# Altium footprint library AMP Footprints.PcbLib: 903 footprints (part 11 of 58)
Each footprint in its own frame and in the unit in brackets; x right, y up, seen from the top. Pads: shape width x height; smd on the part's side, far side on the other; paste and mask are expansions set on the pad; w line width, h text height; cw(c..) or ccw(c..) is an arc to the next point about the centre after c.
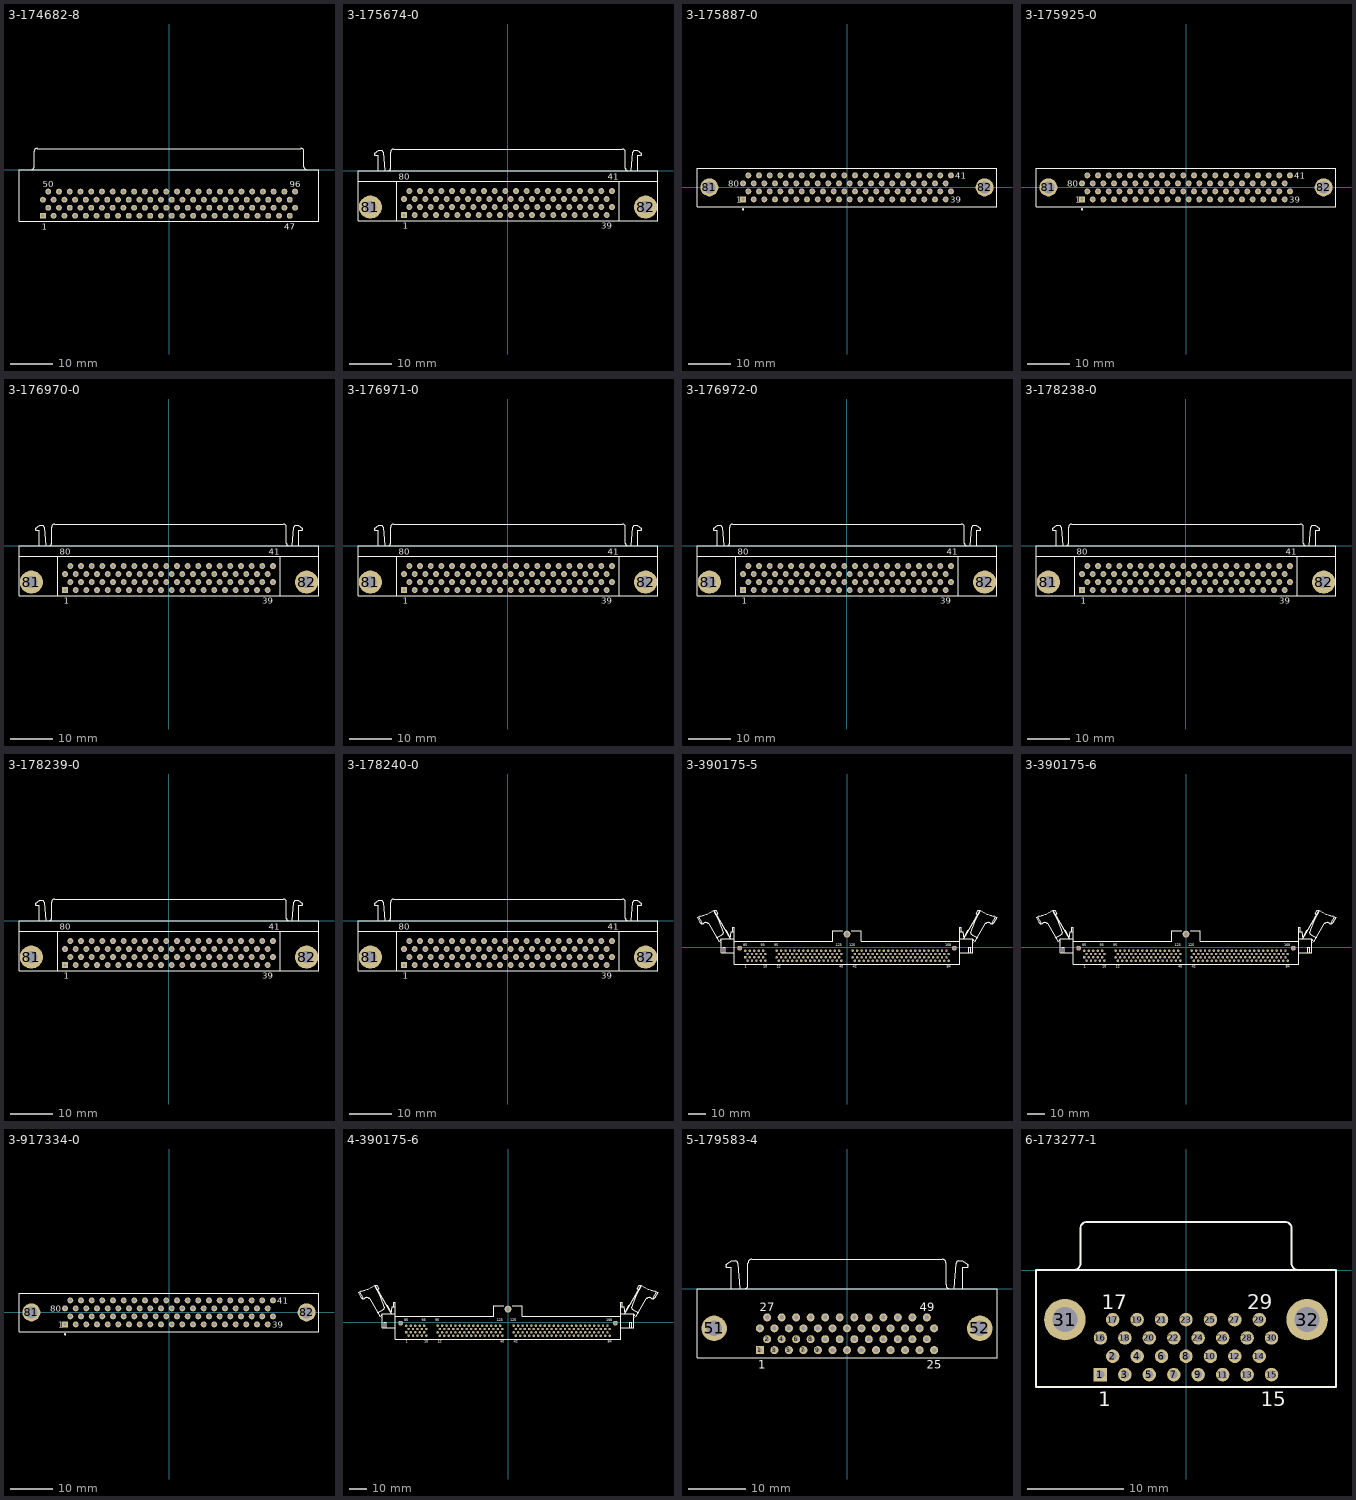
[diagram p10: the footprints below, top view; thin cyan lines are the x and y axes]

## 3-174682-8 [mm] "Connector; D Subminiature 050 Series; 96 Position; Right Angle"
height 7.5
pads (96):
  rect 1.4x1.4 hole 0.8: 1(-29.845,-10.915)
  round 1.4 hole 0.8: 2(-28.575,-9.01) 3(-27.305,-10.915) 4(-26.035,-9.01) 5(-24.765,-10.915) 6(-23.495,-9.01) 7(-22.225,-10.915) 8(-20.955,-9.01) 9(-19.685,-10.915) 10(-18.415,-9.01) 11(-17.145,-10.915) 12(-15.875,-9.01) 13(-14.605,-10.915) 14(-13.335,-9.01) 15(-12.065,-10.915) 16(-10.795,-9.01) 17(-9.525,-10.915) 18(-8.255,-9.01) 19(-6.985,-10.915) 20(-5.715,-9.01) 21(-4.445,-10.915) 22(-3.175,-9.01) 23(-1.905,-10.915) 24(-0.635,-9.01) 25(0.635,-10.915) 26(1.905,-9.01) 27(3.175,-10.915) 28(4.445,-9.01) 29(5.715,-10.915) 30(6.985,-9.01) 31(8.255,-10.915) 32(9.525,-9.01) 33(10.795,-10.915) 34(12.065,-9.01) 35(13.335,-10.915) 36(14.605,-9.01) 37(15.875,-10.915) 38(17.145,-9.01) 39(18.415,-10.915) 40(19.685,-9.01) 41(20.955,-10.915) 42(22.225,-9.01) 43(23.495,-10.915) 44(24.765,-9.01) 45(26.035,-10.915) 46(27.305,-9.01) 47(28.575,-10.915) 48(29.845,-9.01) 49(-29.845,-7.105) 50(-28.575,-5.2) 51(-27.305,-7.105) 52(-26.035,-5.2) 53(-24.765,-7.105) 54(-23.495,-5.2) 55(-22.225,-7.105) 56(-20.955,-5.2) 57(-19.685,-7.105) 58(-18.415,-5.2) 59(-17.145,-7.105) 60(-15.875,-5.2) 61(-14.605,-7.105) 62(-13.335,-5.2) 63(-12.065,-7.105) 64(-10.795,-5.2) 65(-9.525,-7.105) 66(-8.255,-5.2) 67(-6.985,-7.105) 68(-5.715,-5.2) 69(-4.445,-7.105) 70(-3.175,-5.2) 71(-1.905,-7.105) 72(-0.635,-5.2) 73(0.635,-7.105) 74(1.905,-5.2) 75(3.175,-7.105) 76(4.445,-5.2) 77(5.715,-7.105) 78(6.985,-5.2) 79(8.255,-7.105) 80(9.525,-5.2) 81(10.795,-7.105) 82(12.065,-5.2) 83(13.335,-7.105) 84(14.605,-5.2) 85(15.875,-7.105) 86(17.145,-5.2) 87(18.415,-7.105) 88(19.685,-5.2) 89(20.955,-7.105) 90(22.225,-5.2) 91(23.495,-7.105) 92(24.765,-5.2) 93(26.035,-7.105) 94(27.305,-5.2) 95(28.575,-7.105) 96(29.845,-5.2)
Top Overlay:
  lines w0.2: -32.625,0.005 ccw(c-32.625,0.7) -31.93,0.7 -31.93,4.33 cw(c-31.235,4.33) -31.235,5.025 ; -31.235,5 31.235,5 ; 31.235,5.025 cw(c31.235,4.33) 31.93,4.33 31.93,0.7 ccw(c32.625,0.7) 32.625,0.005 ; -35.5,-12.2 -35.5,0 35.5,0 35.5,-12.2 -35.5,-12.2
  text "96" at 28.595,-4.125 h1.5
  text "50" at -29.825,-4.125 h1.5
  text "1" at -30.095,-14.175 h1.5
  text "47" at 27.325,-14.175 h1.5

## 3-175674-0 [mm] "Connector; CHAMP Miniature Ribbon 050 Series II; 80 Position; Right Angle"
height 9.6
pads (82):
  rect 1.4x1.4 hole 0.8: 1(-24.765,-10.5)
  round 1.4 hole 0.8: 2(-23.495,-8.595) 3(-22.225,-10.5) 4(-20.955,-8.595) 5(-19.685,-10.5) 6(-18.415,-8.595) 7(-17.145,-10.5) 8(-15.875,-8.595) 9(-14.605,-10.5) 10(-13.335,-8.595) 11(-12.065,-10.5) 12(-10.795,-8.595) 13(-9.525,-10.5) 14(-8.255,-8.595) 15(-6.985,-10.5) 16(-5.715,-8.595) 17(-4.445,-10.5) 18(-3.175,-8.595) 19(-1.905,-10.5) 20(-0.635,-8.595) 21(0.635,-10.5) 22(1.905,-8.595) 23(3.175,-10.5) 24(4.445,-8.595) 25(5.715,-10.5) 26(6.985,-8.595) 27(8.255,-10.5) 28(9.525,-8.595) 29(10.795,-10.5) 30(12.065,-8.595) 31(13.335,-10.5) 32(14.605,-8.595) 33(15.875,-10.5) 34(17.145,-8.595) 35(18.415,-10.5) 36(19.685,-8.595) 37(20.955,-10.5) 38(22.225,-8.595) 39(23.495,-10.5) 40(24.765,-8.595) 41(24.765,-4.785) 42(23.495,-6.69) 43(22.225,-4.785) 44(20.955,-6.69) 45(19.685,-4.785) 46(18.415,-6.69) 47(17.145,-4.785) 48(15.875,-6.69) 49(14.605,-4.785) 50(13.335,-6.69) 51(12.065,-4.785) 52(10.795,-6.69) 53(9.525,-4.785) 54(8.255,-6.69) 55(6.985,-4.785) 56(5.715,-6.69) 57(4.445,-4.785) 58(3.175,-6.69) 59(1.905,-4.785) 60(0.635,-6.69) 61(-0.635,-4.785) 62(-1.905,-6.69) 63(-3.175,-4.785) 64(-4.445,-6.69) 65(-5.715,-4.785) 66(-6.985,-6.69) 67(-8.255,-4.785) 68(-9.525,-6.69) 69(-10.795,-4.785) 70(-12.065,-6.69) 71(-13.335,-4.785) 72(-14.605,-6.69) 73(-15.875,-4.785) 74(-17.145,-6.69) 75(-18.415,-4.785) 76(-19.685,-6.69) 77(-20.955,-4.785) 78(-22.225,-6.69) 79(-23.495,-4.785) 80(-24.765,-6.69)
  round 5.5 hole 2.8: 81(-32.775,-8.595) 82(32.775,-8.595)
Top Overlay:
  lines w0.2: -35.725,-2.5 35.725,-2.5 ; -31.74,4.27 -30.8,4.898 -30.078,4.898 cw(c-30.18,4.5) -29.77,4.5 ; -31.726,4.255 ccw(c-31.5,4.01) -31.75,3.79 -30.87,3.79 -30.87,0 ; -29.77,4.52 -29.4,0 ; -28.66,0.005 ccw(c-28.66,0.7) -27.965,0.7 -27.965,4.5 ; -27.96,4.505 cw(c-27.265,4.505) -27.265,5.2 27.265,5.2 cw(c27.265,4.505) 27.96,4.505 ; -26.52,-11.8 -26.52,-2.58 ; 26.52,-11.8 26.52,-2.5 ; 27.965,4.5 27.965,0.7 ccw(c28.66,0.7) 28.66,0.005 ; 29.4,0 29.77,4.52 ; 29.77,4.5 cw(c30.18,4.5) 30.078,4.898 30.8,4.898 31.74,4.27 ; 30.87,0 30.87,3.79 31.75,3.79 ccw(c31.5,4.01) 31.726,4.255 ; -35.725,-11.8 35.725,-11.8 35.725,0 -35.725,0 -35.725,-11.8
  text "41" at 23.765,-2.025 h1.5
  text "80" at -26.015,-2.025 h1.5
  text "39" at 22.245,-13.775 h1.5
  text "1" at -25.015,-13.775 h1.5

## 3-175887-0 [mm] "Connector; CHAMP Miniature Ribbon 050 Series II; 80 Position; Vertical"
height 11.1
pads (82):
  rect 1.4x1.4 hole 0.8: 1(-24.765,-2.857)
  round 1.4 hole 0.8: 2(-23.495,-0.953) 3(-22.225,-2.857) 4(-20.955,-0.953) 5(-19.685,-2.857) 6(-18.415,-0.953) 7(-17.145,-2.857) 8(-15.875,-0.953) 9(-14.605,-2.857) 10(-13.335,-0.953) 11(-12.065,-2.857) 12(-10.795,-0.953) 13(-9.525,-2.857) 14(-8.255,-0.953) 15(-6.985,-2.857) 16(-5.715,-0.953) 17(-4.445,-2.857) 18(-3.175,-0.953) 19(-1.905,-2.857) 20(-0.635,-0.953) 21(0.635,-2.857) 22(1.905,-0.953) 23(3.175,-2.857) 24(4.445,-0.953) 25(5.715,-2.857) 26(6.985,-0.953) 27(8.255,-2.857) 28(9.525,-0.953) 29(10.795,-2.857) 30(12.065,-0.953) 31(13.335,-2.857) 32(14.605,-0.953) 33(15.875,-2.857) 34(17.145,-0.953) 35(18.415,-2.857) 36(19.685,-0.953) 37(20.955,-2.857) 38(22.225,-0.953) 39(23.495,-2.857) 40(24.765,-0.953) 41(24.765,2.857) 42(23.495,0.953) 43(22.225,2.857) 44(20.955,0.953) 45(19.685,2.857) 46(18.415,0.953) 47(17.145,2.857) 48(15.875,0.953) 49(14.605,2.857) 50(13.335,0.953) 51(12.065,2.857) 52(10.795,0.953) 53(9.525,2.857) 54(8.255,0.953) 55(6.985,2.857) 56(5.715,0.953) 57(4.445,2.857) 58(3.175,0.953) 59(1.905,2.857) 60(0.635,0.953) 61(-0.635,2.857) 62(-1.905,0.953) 63(-3.175,2.857) 64(-4.445,0.953) 65(-5.715,2.857) 66(-6.985,0.953) 67(-8.255,2.857) 68(-9.525,0.953) 69(-10.795,2.857) 70(-12.065,0.953) 71(-13.335,2.857) 72(-14.605,0.953) 73(-15.875,2.857) 74(-17.145,0.953) 75(-18.415,2.857) 76(-19.685,0.953) 77(-20.955,2.857) 78(-22.225,0.953) 79(-23.495,2.857) 80(-24.765,0.953)
  round 4.3 hole 2.8: 81(-32.775,0) 82(32.775,0)
Top Overlay:
  circle w0.25: c-24.765,-5.25 r0.125
  lines w0.2: -35.725,-4.6 35.725,-4.6 35.725,4.6 -35.725,4.6 -35.725,-4.6
  text "41" at 25.84,2.107 h1.5
  text "80" at -28.34,0.202 h1.5
  text "39" at 24.57,-3.608 h1.5
  text "1" at -26.34,-3.608 h1.5

## 3-175925-0 [mm] "Connector; CHAMP Miniature Ribbon 050 Series II; 80 Position; Vertical"
height 11.1
pads (82):
  rect 1.4x1.4 hole 0.8: 1(-24.765,-2.857)
  round 1.4 hole 0.8: 2(-23.495,-0.953) 3(-22.225,-2.857) 4(-20.955,-0.953) 5(-19.685,-2.857) 6(-18.415,-0.953) 7(-17.145,-2.857) 8(-15.875,-0.953) 9(-14.605,-2.857) 10(-13.335,-0.953) 11(-12.065,-2.857) 12(-10.795,-0.953) 13(-9.525,-2.857) 14(-8.255,-0.953) 15(-6.985,-2.857) 16(-5.715,-0.953) 17(-4.445,-2.857) 18(-3.175,-0.953) 19(-1.905,-2.857) 20(-0.635,-0.953) 21(0.635,-2.857) 22(1.905,-0.953) 23(3.175,-2.857) 24(4.445,-0.953) 25(5.715,-2.857) 26(6.985,-0.953) 27(8.255,-2.857) 28(9.525,-0.953) 29(10.795,-2.857) 30(12.065,-0.953) 31(13.335,-2.857) 32(14.605,-0.953) 33(15.875,-2.857) 34(17.145,-0.953) 35(18.415,-2.857) 36(19.685,-0.953) 37(20.955,-2.857) 38(22.225,-0.953) 39(23.495,-2.857) 40(24.765,-0.953) 41(24.765,2.857) 42(23.495,0.953) 43(22.225,2.857) 44(20.955,0.953) 45(19.685,2.857) 46(18.415,0.953) 47(17.145,2.857) 48(15.875,0.953) 49(14.605,2.857) 50(13.335,0.953) 51(12.065,2.857) 52(10.795,0.953) 53(9.525,2.857) 54(8.255,0.953) 55(6.985,2.857) 56(5.715,0.953) 57(4.445,2.857) 58(3.175,0.953) 59(1.905,2.857) 60(0.635,0.953) 61(-0.635,2.857) 62(-1.905,0.953) 63(-3.175,2.857) 64(-4.445,0.953) 65(-5.715,2.857) 66(-6.985,0.953) 67(-8.255,2.857) 68(-9.525,0.953) 69(-10.795,2.857) 70(-12.065,0.953) 71(-13.335,2.857) 72(-14.605,0.953) 73(-15.875,2.857) 74(-17.145,0.953) 75(-18.415,2.857) 76(-19.685,0.953) 77(-20.955,2.857) 78(-22.225,0.953) 79(-23.495,2.857) 80(-24.765,0.953)
  round 4.3 hole 2.8: 81(-32.775,0) 82(32.775,0)
Top Overlay:
  circle w0.25: c-24.765,-5.25 r0.125
  lines w0.2: -35.725,-4.6 35.725,-4.6 35.725,4.6 -35.725,4.6 -35.725,-4.6
  text "41" at 25.84,2.107 h1.5
  text "80" at -28.34,0.202 h1.5
  text "39" at 24.57,-3.608 h1.5
  text "1" at -26.34,-3.608 h1.5

## 3-176970-0 [mm] "Connector; CHAMP Miniature Ribbon 050 Series II; 80 Position; Right Angle"
height 9.6
pads (82):
  rect 1.4x1.4 hole 0.8: 1(-24.765,-10.5)
  round 1.4 hole 0.8: 2(-23.495,-8.595) 3(-22.225,-10.5) 4(-20.955,-8.595) 5(-19.685,-10.5) 6(-18.415,-8.595) 7(-17.145,-10.5) 8(-15.875,-8.595) 9(-14.605,-10.5) 10(-13.335,-8.595) 11(-12.065,-10.5) 12(-10.795,-8.595) 13(-9.525,-10.5) 14(-8.255,-8.595) 15(-6.985,-10.5) 16(-5.715,-8.595) 17(-4.445,-10.5) 18(-3.175,-8.595) 19(-1.905,-10.5) 20(-0.635,-8.595) 21(0.635,-10.5) 22(1.905,-8.595) 23(3.175,-10.5) 24(4.445,-8.595) 25(5.715,-10.5) 26(6.985,-8.595) 27(8.255,-10.5) 28(9.525,-8.595) 29(10.795,-10.5) 30(12.065,-8.595) 31(13.335,-10.5) 32(14.605,-8.595) 33(15.875,-10.5) 34(17.145,-8.595) 35(18.415,-10.5) 36(19.685,-8.595) 37(20.955,-10.5) 38(22.225,-8.595) 39(23.495,-10.5) 40(24.765,-8.595) 41(24.765,-4.785) 42(23.495,-6.69) 43(22.225,-4.785) 44(20.955,-6.69) 45(19.685,-4.785) 46(18.415,-6.69) 47(17.145,-4.785) 48(15.875,-6.69) 49(14.605,-4.785) 50(13.335,-6.69) 51(12.065,-4.785) 52(10.795,-6.69) 53(9.525,-4.785) 54(8.255,-6.69) 55(6.985,-4.785) 56(5.715,-6.69) 57(4.445,-4.785) 58(3.175,-6.69) 59(1.905,-4.785) 60(0.635,-6.69) 61(-0.635,-4.785) 62(-1.905,-6.69) 63(-3.175,-4.785) 64(-4.445,-6.69) 65(-5.715,-4.785) 66(-6.985,-6.69) 67(-8.255,-4.785) 68(-9.525,-6.69) 69(-10.795,-4.785) 70(-12.065,-6.69) 71(-13.335,-4.785) 72(-14.605,-6.69) 73(-15.875,-4.785) 74(-17.145,-6.69) 75(-18.415,-4.785) 76(-19.685,-6.69) 77(-20.955,-4.785) 78(-22.225,-6.69) 79(-23.495,-4.785) 80(-24.765,-6.69)
  round 5.5 hole 2.8: 81(-32.775,-8.595) 82(32.775,-8.595)
Top Overlay:
  lines w0.2: -35.725,-2.5 35.725,-2.5 ; -31.74,4.27 -30.8,4.898 -30.078,4.898 cw(c-30.18,4.5) -29.77,4.5 ; -31.726,4.255 ccw(c-31.5,4.01) -31.75,3.79 -30.87,3.79 -30.87,0 ; -29.77,4.52 -29.4,0 ; -28.66,0.005 ccw(c-28.66,0.7) -27.965,0.7 -27.965,4.5 ; -27.96,4.505 cw(c-27.265,4.505) -27.265,5.2 27.265,5.2 cw(c27.265,4.505) 27.96,4.505 ; -26.52,-11.8 -26.52,-2.58 ; 26.52,-11.8 26.52,-2.5 ; 27.965,4.5 27.965,0.7 ccw(c28.66,0.7) 28.66,0.005 ; 29.4,0 29.77,4.52 ; 29.77,4.5 cw(c30.18,4.5) 30.078,4.898 30.8,4.898 31.74,4.27 ; 30.87,0 30.87,3.79 31.75,3.79 ccw(c31.5,4.01) 31.726,4.255 ; -35.725,-11.8 35.725,-11.8 35.725,0 -35.725,0 -35.725,-11.8
  text "41" at 23.765,-2.025 h1.5
  text "80" at -26.015,-2.025 h1.5
  text "39" at 22.245,-13.775 h1.5
  text "1" at -25.015,-13.775 h1.5

## 3-176971-0 [mm] "Connector; CHAMP Miniature Ribbon 050 Series II; 80 Position; Right Angle"
height 9.6
pads (82):
  rect 1.4x1.4 hole 0.8: 1(-24.765,-10.5)
  round 1.4 hole 0.8: 2(-23.495,-8.595) 3(-22.225,-10.5) 4(-20.955,-8.595) 5(-19.685,-10.5) 6(-18.415,-8.595) 7(-17.145,-10.5) 8(-15.875,-8.595) 9(-14.605,-10.5) 10(-13.335,-8.595) 11(-12.065,-10.5) 12(-10.795,-8.595) 13(-9.525,-10.5) 14(-8.255,-8.595) 15(-6.985,-10.5) 16(-5.715,-8.595) 17(-4.445,-10.5) 18(-3.175,-8.595) 19(-1.905,-10.5) 20(-0.635,-8.595) 21(0.635,-10.5) 22(1.905,-8.595) 23(3.175,-10.5) 24(4.445,-8.595) 25(5.715,-10.5) 26(6.985,-8.595) 27(8.255,-10.5) 28(9.525,-8.595) 29(10.795,-10.5) 30(12.065,-8.595) 31(13.335,-10.5) 32(14.605,-8.595) 33(15.875,-10.5) 34(17.145,-8.595) 35(18.415,-10.5) 36(19.685,-8.595) 37(20.955,-10.5) 38(22.225,-8.595) 39(23.495,-10.5) 40(24.765,-8.595) 41(24.765,-4.785) 42(23.495,-6.69) 43(22.225,-4.785) 44(20.955,-6.69) 45(19.685,-4.785) 46(18.415,-6.69) 47(17.145,-4.785) 48(15.875,-6.69) 49(14.605,-4.785) 50(13.335,-6.69) 51(12.065,-4.785) 52(10.795,-6.69) 53(9.525,-4.785) 54(8.255,-6.69) 55(6.985,-4.785) 56(5.715,-6.69) 57(4.445,-4.785) 58(3.175,-6.69) 59(1.905,-4.785) 60(0.635,-6.69) 61(-0.635,-4.785) 62(-1.905,-6.69) 63(-3.175,-4.785) 64(-4.445,-6.69) 65(-5.715,-4.785) 66(-6.985,-6.69) 67(-8.255,-4.785) 68(-9.525,-6.69) 69(-10.795,-4.785) 70(-12.065,-6.69) 71(-13.335,-4.785) 72(-14.605,-6.69) 73(-15.875,-4.785) 74(-17.145,-6.69) 75(-18.415,-4.785) 76(-19.685,-6.69) 77(-20.955,-4.785) 78(-22.225,-6.69) 79(-23.495,-4.785) 80(-24.765,-6.69)
  round 5.5 hole 2.8: 81(-32.775,-8.595) 82(32.775,-8.595)
Top Overlay:
  lines w0.2: -35.725,-2.5 35.725,-2.5 ; -31.74,4.27 -30.8,4.898 -30.078,4.898 cw(c-30.18,4.5) -29.77,4.5 ; -31.726,4.255 ccw(c-31.5,4.01) -31.75,3.79 -30.87,3.79 -30.87,0 ; -29.77,4.52 -29.4,0 ; -28.66,0.005 ccw(c-28.66,0.7) -27.965,0.7 -27.965,4.5 ; -27.96,4.505 cw(c-27.265,4.505) -27.265,5.2 27.265,5.2 cw(c27.265,4.505) 27.96,4.505 ; -26.52,-11.8 -26.52,-2.58 ; 26.52,-11.8 26.52,-2.5 ; 27.965,4.5 27.965,0.7 ccw(c28.66,0.7) 28.66,0.005 ; 29.4,0 29.77,4.52 ; 29.77,4.5 cw(c30.18,4.5) 30.078,4.898 30.8,4.898 31.74,4.27 ; 30.87,0 30.87,3.79 31.75,3.79 ccw(c31.5,4.01) 31.726,4.255 ; -35.725,-11.8 35.725,-11.8 35.725,0 -35.725,0 -35.725,-11.8
  text "41" at 23.765,-2.025 h1.5
  text "80" at -26.015,-2.025 h1.5
  text "39" at 22.245,-13.775 h1.5
  text "1" at -25.015,-13.775 h1.5

## 3-176972-0 [mm] "Connector; CHAMP Miniature Ribbon 050 Series II; 80 Position; Right Angle"
height 9.6
pads (82):
  rect 1.4x1.4 hole 0.8: 1(-24.765,-10.5)
  round 1.4 hole 0.8: 2(-23.495,-8.595) 3(-22.225,-10.5) 4(-20.955,-8.595) 5(-19.685,-10.5) 6(-18.415,-8.595) 7(-17.145,-10.5) 8(-15.875,-8.595) 9(-14.605,-10.5) 10(-13.335,-8.595) 11(-12.065,-10.5) 12(-10.795,-8.595) 13(-9.525,-10.5) 14(-8.255,-8.595) 15(-6.985,-10.5) 16(-5.715,-8.595) 17(-4.445,-10.5) 18(-3.175,-8.595) 19(-1.905,-10.5) 20(-0.635,-8.595) 21(0.635,-10.5) 22(1.905,-8.595) 23(3.175,-10.5) 24(4.445,-8.595) 25(5.715,-10.5) 26(6.985,-8.595) 27(8.255,-10.5) 28(9.525,-8.595) 29(10.795,-10.5) 30(12.065,-8.595) 31(13.335,-10.5) 32(14.605,-8.595) 33(15.875,-10.5) 34(17.145,-8.595) 35(18.415,-10.5) 36(19.685,-8.595) 37(20.955,-10.5) 38(22.225,-8.595) 39(23.495,-10.5) 40(24.765,-8.595) 41(24.765,-4.785) 42(23.495,-6.69) 43(22.225,-4.785) 44(20.955,-6.69) 45(19.685,-4.785) 46(18.415,-6.69) 47(17.145,-4.785) 48(15.875,-6.69) 49(14.605,-4.785) 50(13.335,-6.69) 51(12.065,-4.785) 52(10.795,-6.69) 53(9.525,-4.785) 54(8.255,-6.69) 55(6.985,-4.785) 56(5.715,-6.69) 57(4.445,-4.785) 58(3.175,-6.69) 59(1.905,-4.785) 60(0.635,-6.69) 61(-0.635,-4.785) 62(-1.905,-6.69) 63(-3.175,-4.785) 64(-4.445,-6.69) 65(-5.715,-4.785) 66(-6.985,-6.69) 67(-8.255,-4.785) 68(-9.525,-6.69) 69(-10.795,-4.785) 70(-12.065,-6.69) 71(-13.335,-4.785) 72(-14.605,-6.69) 73(-15.875,-4.785) 74(-17.145,-6.69) 75(-18.415,-4.785) 76(-19.685,-6.69) 77(-20.955,-4.785) 78(-22.225,-6.69) 79(-23.495,-4.785) 80(-24.765,-6.69)
  round 5.5 hole 2.8: 81(-32.775,-8.595) 82(32.775,-8.595)
Top Overlay:
  lines w0.2: -35.725,-2.5 35.725,-2.5 ; -31.74,4.27 -30.8,4.898 -30.078,4.898 cw(c-30.18,4.5) -29.77,4.5 ; -31.726,4.255 ccw(c-31.5,4.01) -31.75,3.79 -30.87,3.79 -30.87,0 ; -29.77,4.52 -29.4,0 ; -28.66,0.005 ccw(c-28.66,0.7) -27.965,0.7 -27.965,4.5 ; -27.96,4.505 cw(c-27.265,4.505) -27.265,5.2 27.265,5.2 cw(c27.265,4.505) 27.96,4.505 ; -26.52,-11.8 -26.52,-2.58 ; 26.52,-11.8 26.52,-2.5 ; 27.965,4.5 27.965,0.7 ccw(c28.66,0.7) 28.66,0.005 ; 29.4,0 29.77,4.52 ; 29.77,4.5 cw(c30.18,4.5) 30.078,4.898 30.8,4.898 31.74,4.27 ; 30.87,0 30.87,3.79 31.75,3.79 ccw(c31.5,4.01) 31.726,4.255 ; -35.725,-11.8 35.725,-11.8 35.725,0 -35.725,0 -35.725,-11.8
  text "41" at 23.765,-2.025 h1.5
  text "80" at -26.015,-2.025 h1.5
  text "39" at 22.245,-13.775 h1.5
  text "1" at -25.015,-13.775 h1.5

## 3-178238-0 [mm] "Connector; CHAMP Miniature Ribbon 050 Series II; 80 Position; Right Angle"
height 9.6
pads (82):
  rect 1.4x1.4 hole 0.8: 1(-24.765,-10.5)
  round 1.4 hole 0.8: 2(-23.495,-8.595) 3(-22.225,-10.5) 4(-20.955,-8.595) 5(-19.685,-10.5) 6(-18.415,-8.595) 7(-17.145,-10.5) 8(-15.875,-8.595) 9(-14.605,-10.5) 10(-13.335,-8.595) 11(-12.065,-10.5) 12(-10.795,-8.595) 13(-9.525,-10.5) 14(-8.255,-8.595) 15(-6.985,-10.5) 16(-5.715,-8.595) 17(-4.445,-10.5) 18(-3.175,-8.595) 19(-1.905,-10.5) 20(-0.635,-8.595) 21(0.635,-10.5) 22(1.905,-8.595) 23(3.175,-10.5) 24(4.445,-8.595) 25(5.715,-10.5) 26(6.985,-8.595) 27(8.255,-10.5) 28(9.525,-8.595) 29(10.795,-10.5) 30(12.065,-8.595) 31(13.335,-10.5) 32(14.605,-8.595) 33(15.875,-10.5) 34(17.145,-8.595) 35(18.415,-10.5) 36(19.685,-8.595) 37(20.955,-10.5) 38(22.225,-8.595) 39(23.495,-10.5) 40(24.765,-8.595) 41(24.765,-4.785) 42(23.495,-6.69) 43(22.225,-4.785) 44(20.955,-6.69) 45(19.685,-4.785) 46(18.415,-6.69) 47(17.145,-4.785) 48(15.875,-6.69) 49(14.605,-4.785) 50(13.335,-6.69) 51(12.065,-4.785) 52(10.795,-6.69) 53(9.525,-4.785) 54(8.255,-6.69) 55(6.985,-4.785) 56(5.715,-6.69) 57(4.445,-4.785) 58(3.175,-6.69) 59(1.905,-4.785) 60(0.635,-6.69) 61(-0.635,-4.785) 62(-1.905,-6.69) 63(-3.175,-4.785) 64(-4.445,-6.69) 65(-5.715,-4.785) 66(-6.985,-6.69) 67(-8.255,-4.785) 68(-9.525,-6.69) 69(-10.795,-4.785) 70(-12.065,-6.69) 71(-13.335,-4.785) 72(-14.605,-6.69) 73(-15.875,-4.785) 74(-17.145,-6.69) 75(-18.415,-4.785) 76(-19.685,-6.69) 77(-20.955,-4.785) 78(-22.225,-6.69) 79(-23.495,-4.785) 80(-24.765,-6.69)
  round 5.5 hole 2.8: 81(-32.775,-8.595) 82(32.775,-8.595)
Top Overlay:
  lines w0.2: -35.725,-2.5 35.725,-2.5 ; -31.74,4.27 -30.8,4.898 -30.078,4.898 cw(c-30.18,4.5) -29.77,4.5 ; -31.726,4.255 ccw(c-31.5,4.01) -31.75,3.79 -30.87,3.79 -30.87,0 ; -29.77,4.52 -29.4,0 ; -28.66,0.005 ccw(c-28.66,0.7) -27.965,0.7 -27.965,4.5 ; -27.96,4.505 cw(c-27.265,4.505) -27.265,5.2 27.265,5.2 cw(c27.265,4.505) 27.96,4.505 ; -26.52,-11.8 -26.52,-2.58 ; 26.52,-11.8 26.52,-2.5 ; 27.965,4.5 27.965,0.7 ccw(c28.66,0.7) 28.66,0.005 ; 29.4,0 29.77,4.52 ; 29.77,4.5 cw(c30.18,4.5) 30.078,4.898 30.8,4.898 31.74,4.27 ; 30.87,0 30.87,3.79 31.75,3.79 ccw(c31.5,4.01) 31.726,4.255 ; -35.725,-11.8 35.725,-11.8 35.725,0 -35.725,0 -35.725,-11.8
  text "41" at 23.765,-2.025 h1.5
  text "80" at -26.015,-2.025 h1.5
  text "39" at 22.245,-13.775 h1.5
  text "1" at -25.015,-13.775 h1.5

## 3-178239-0 [mm] "Connector; CHAMP Miniature Ribbon 050 Series II; 80 Position; Right Angle"
height 9.6
pads (82):
  rect 1.4x1.4 hole 0.8: 1(-24.765,-10.5)
  round 1.4 hole 0.8: 2(-23.495,-8.595) 3(-22.225,-10.5) 4(-20.955,-8.595) 5(-19.685,-10.5) 6(-18.415,-8.595) 7(-17.145,-10.5) 8(-15.875,-8.595) 9(-14.605,-10.5) 10(-13.335,-8.595) 11(-12.065,-10.5) 12(-10.795,-8.595) 13(-9.525,-10.5) 14(-8.255,-8.595) 15(-6.985,-10.5) 16(-5.715,-8.595) 17(-4.445,-10.5) 18(-3.175,-8.595) 19(-1.905,-10.5) 20(-0.635,-8.595) 21(0.635,-10.5) 22(1.905,-8.595) 23(3.175,-10.5) 24(4.445,-8.595) 25(5.715,-10.5) 26(6.985,-8.595) 27(8.255,-10.5) 28(9.525,-8.595) 29(10.795,-10.5) 30(12.065,-8.595) 31(13.335,-10.5) 32(14.605,-8.595) 33(15.875,-10.5) 34(17.145,-8.595) 35(18.415,-10.5) 36(19.685,-8.595) 37(20.955,-10.5) 38(22.225,-8.595) 39(23.495,-10.5) 40(24.765,-8.595) 41(24.765,-4.785) 42(23.495,-6.69) 43(22.225,-4.785) 44(20.955,-6.69) 45(19.685,-4.785) 46(18.415,-6.69) 47(17.145,-4.785) 48(15.875,-6.69) 49(14.605,-4.785) 50(13.335,-6.69) 51(12.065,-4.785) 52(10.795,-6.69) 53(9.525,-4.785) 54(8.255,-6.69) 55(6.985,-4.785) 56(5.715,-6.69) 57(4.445,-4.785) 58(3.175,-6.69) 59(1.905,-4.785) 60(0.635,-6.69) 61(-0.635,-4.785) 62(-1.905,-6.69) 63(-3.175,-4.785) 64(-4.445,-6.69) 65(-5.715,-4.785) 66(-6.985,-6.69) 67(-8.255,-4.785) 68(-9.525,-6.69) 69(-10.795,-4.785) 70(-12.065,-6.69) 71(-13.335,-4.785) 72(-14.605,-6.69) 73(-15.875,-4.785) 74(-17.145,-6.69) 75(-18.415,-4.785) 76(-19.685,-6.69) 77(-20.955,-4.785) 78(-22.225,-6.69) 79(-23.495,-4.785) 80(-24.765,-6.69)
  round 5.5 hole 2.8: 81(-32.775,-8.595) 82(32.775,-8.595)
Top Overlay:
  lines w0.2: -35.725,-2.5 35.725,-2.5 ; -31.74,4.27 -30.8,4.898 -30.078,4.898 cw(c-30.18,4.5) -29.77,4.5 ; -31.726,4.255 ccw(c-31.5,4.01) -31.75,3.79 -30.87,3.79 -30.87,0 ; -29.77,4.52 -29.4,0 ; -28.66,0.005 ccw(c-28.66,0.7) -27.965,0.7 -27.965,4.5 ; -27.96,4.505 cw(c-27.265,4.505) -27.265,5.2 27.265,5.2 cw(c27.265,4.505) 27.96,4.505 ; -26.52,-11.8 -26.52,-2.58 ; 26.52,-11.8 26.52,-2.5 ; 27.965,4.5 27.965,0.7 ccw(c28.66,0.7) 28.66,0.005 ; 29.4,0 29.77,4.52 ; 29.77,4.5 cw(c30.18,4.5) 30.078,4.898 30.8,4.898 31.74,4.27 ; 30.87,0 30.87,3.79 31.75,3.79 ccw(c31.5,4.01) 31.726,4.255 ; -35.725,-11.8 35.725,-11.8 35.725,0 -35.725,0 -35.725,-11.8
  text "41" at 23.765,-2.025 h1.5
  text "80" at -26.015,-2.025 h1.5
  text "39" at 22.245,-13.775 h1.5
  text "1" at -25.015,-13.775 h1.5

## 3-178240-0 [mm] "Connector; CHAMP Miniature Ribbon 050 Series II; 80 Position; Right Angle"
height 9.6
pads (82):
  rect 1.4x1.4 hole 0.8: 1(-24.765,-10.5)
  round 1.4 hole 0.8: 2(-23.495,-8.595) 3(-22.225,-10.5) 4(-20.955,-8.595) 5(-19.685,-10.5) 6(-18.415,-8.595) 7(-17.145,-10.5) 8(-15.875,-8.595) 9(-14.605,-10.5) 10(-13.335,-8.595) 11(-12.065,-10.5) 12(-10.795,-8.595) 13(-9.525,-10.5) 14(-8.255,-8.595) 15(-6.985,-10.5) 16(-5.715,-8.595) 17(-4.445,-10.5) 18(-3.175,-8.595) 19(-1.905,-10.5) 20(-0.635,-8.595) 21(0.635,-10.5) 22(1.905,-8.595) 23(3.175,-10.5) 24(4.445,-8.595) 25(5.715,-10.5) 26(6.985,-8.595) 27(8.255,-10.5) 28(9.525,-8.595) 29(10.795,-10.5) 30(12.065,-8.595) 31(13.335,-10.5) 32(14.605,-8.595) 33(15.875,-10.5) 34(17.145,-8.595) 35(18.415,-10.5) 36(19.685,-8.595) 37(20.955,-10.5) 38(22.225,-8.595) 39(23.495,-10.5) 40(24.765,-8.595) 41(24.765,-4.785) 42(23.495,-6.69) 43(22.225,-4.785) 44(20.955,-6.69) 45(19.685,-4.785) 46(18.415,-6.69) 47(17.145,-4.785) 48(15.875,-6.69) 49(14.605,-4.785) 50(13.335,-6.69) 51(12.065,-4.785) 52(10.795,-6.69) 53(9.525,-4.785) 54(8.255,-6.69) 55(6.985,-4.785) 56(5.715,-6.69) 57(4.445,-4.785) 58(3.175,-6.69) 59(1.905,-4.785) 60(0.635,-6.69) 61(-0.635,-4.785) 62(-1.905,-6.69) 63(-3.175,-4.785) 64(-4.445,-6.69) 65(-5.715,-4.785) 66(-6.985,-6.69) 67(-8.255,-4.785) 68(-9.525,-6.69) 69(-10.795,-4.785) 70(-12.065,-6.69) 71(-13.335,-4.785) 72(-14.605,-6.69) 73(-15.875,-4.785) 74(-17.145,-6.69) 75(-18.415,-4.785) 76(-19.685,-6.69) 77(-20.955,-4.785) 78(-22.225,-6.69) 79(-23.495,-4.785) 80(-24.765,-6.69)
  round 5.5 hole 2.8: 81(-32.775,-8.595) 82(32.775,-8.595)
Top Overlay:
  lines w0.2: -35.725,-2.5 35.725,-2.5 ; -31.74,4.27 -30.8,4.898 -30.078,4.898 cw(c-30.18,4.5) -29.77,4.5 ; -31.726,4.255 ccw(c-31.5,4.01) -31.75,3.79 -30.87,3.79 -30.87,0 ; -29.77,4.52 -29.4,0 ; -28.66,0.005 ccw(c-28.66,0.7) -27.965,0.7 -27.965,4.5 ; -27.96,4.505 cw(c-27.265,4.505) -27.265,5.2 27.265,5.2 cw(c27.265,4.505) 27.96,4.505 ; -26.52,-11.8 -26.52,-2.58 ; 26.52,-11.8 26.52,-2.5 ; 27.965,4.5 27.965,0.7 ccw(c28.66,0.7) 28.66,0.005 ; 29.4,0 29.77,4.52 ; 29.77,4.5 cw(c30.18,4.5) 30.078,4.898 30.8,4.898 31.74,4.27 ; 30.87,0 30.87,3.79 31.75,3.79 ccw(c31.5,4.01) 31.726,4.255 ; -35.725,-11.8 35.725,-11.8 35.725,0 -35.725,0 -35.725,-11.8
  text "41" at 23.765,-2.025 h1.5
  text "80" at -26.015,-2.025 h1.5
  text "39" at 22.245,-13.775 h1.5
  text "1" at -25.015,-13.775 h1.5

## 3-390175-5 [mm] "Connector; DIMM II; 168 Position; Right Angle"
height 12.7
pads (171):
  rect 1.4x1.4 hole 0.81: 1(-57.785,-5.645)
  round 1.4 hole 0.81: 2(-56.515,-7.545) 3(-55.245,-5.645) 4(-53.975,-7.545) 5(-52.705,-5.645) 6(-51.435,-7.545) 7(-50.165,-5.645) 8(-48.895,-7.545) 9(-47.625,-5.645) 10(-46.355,-7.545) 11(-40.005,-5.645) 12(-38.735,-7.545) 13(-37.465,-5.645) 14(-36.195,-7.545) 15(-34.925,-5.645) 16(-33.655,-7.545) 17(-32.385,-5.645) 18(-31.115,-7.545) 19(-29.845,-5.645) 20(-28.575,-7.545) 21(-27.305,-5.645) 22(-26.035,-7.545) 23(-24.765,-5.645) 24(-23.495,-7.545) 25(-22.225,-5.645) 26(-20.955,-7.545) 27(-19.685,-5.645) 28(-18.415,-7.545) 29(-17.145,-5.645) 30(-15.875,-7.545) 31(-14.605,-5.645) 32(-13.335,-7.545) 33(-12.065,-5.645) 34(-10.795,-7.545) 35(-9.525,-5.645) 36(-8.255,-7.545) 37(-6.985,-5.645) 38(-5.715,-7.545) 39(-4.445,-5.645) 40(-3.175,-7.545) 41(3.175,-5.645) 42(4.445,-7.545) 43(5.715,-5.645) 44(6.985,-7.545) 45(8.255,-5.645) 46(9.525,-7.545) 47(10.795,-5.645) 48(12.065,-7.545) 49(13.335,-5.645) 50(14.605,-7.545) 51(15.875,-5.645) 52(17.145,-7.545) 53(18.415,-5.645) 54(19.685,-7.545) 55(20.955,-5.645) 56(22.225,-7.545) 57(23.495,-5.645) 58(24.765,-7.545) 59(26.035,-5.645) 60(27.305,-7.545) 61(28.575,-5.645) 62(29.845,-7.545) 63(31.115,-5.645) 64(32.385,-7.545) 65(33.655,-5.645) 66(34.925,-7.545) 67(36.195,-5.645) 68(37.465,-7.545) 69(38.735,-5.645) 70(40.005,-7.545) 71(41.275,-5.645) 72(42.545,-7.545) 73(43.815,-5.645) 74(45.085,-7.545) 75(46.355,-5.645) 76(47.625,-7.545) 77(48.895,-5.645) 78(50.165,-7.545) 79(51.435,-5.645) 80(52.705,-7.545) 81(53.975,-5.645) 82(55.245,-7.545) 83(56.515,-5.645) 84(57.785,-7.545) 85(-57.785,-1.845) 86(-56.515,-3.745) 87(-55.245,-1.845) 88(-53.975,-3.745) 89(-52.705,-1.845) 90(-51.435,-3.745) 91(-50.165,-1.845) 92(-48.895,-3.745) 93(-47.625,-1.845) 94(-46.355,-3.745) 95(-40.005,-1.845) 96(-38.735,-3.745) 97(-37.465,-1.845) 98(-36.195,-3.745) 99(-34.925,-1.845) 100(-33.655,-3.745) 101(-32.385,-1.845) 102(-31.115,-3.745) 103(-29.845,-1.845) 104(-28.575,-3.745) 105(-27.305,-1.845) 106(-26.035,-3.745) 107(-24.765,-1.845) 108(-23.495,-3.745) 109(-22.225,-1.845) 110(-20.955,-3.745) 111(-19.685,-1.845) 112(-18.415,-3.745) 113(-17.145,-1.845) 114(-15.875,-3.745) 115(-14.605,-1.845) 116(-13.335,-3.745) 117(-12.065,-1.845) 118(-10.795,-3.745) 119(-9.525,-1.845) 120(-8.255,-3.745) 121(-6.985,-1.845) 122(-5.715,-3.745) 123(-4.445,-1.845) 124(-3.175,-3.745) 125(3.175,-1.845) 126(4.445,-3.745) 127(5.715,-1.845) 128(6.985,-3.745) 129(8.255,-1.845) 130(9.525,-3.745) 131(10.795,-1.845) 132(12.065,-3.745) 133(13.335,-1.845) 134(14.605,-3.745) 135(15.875,-1.845) 136(17.145,-3.745) 137(18.415,-1.845) 138(19.685,-3.745) 139(20.955,-1.845) 140(22.225,-3.745) 141(23.495,-1.845) 142(24.765,-3.745) 143(26.035,-1.845) 144(27.305,-3.745) 145(28.575,-1.845) 146(29.845,-3.745) 147(31.115,-1.845) 148(32.385,-3.745) 149(33.655,-1.845) 150(34.925,-3.745) 151(36.195,-1.845) 152(37.465,-3.745) 153(38.735,-1.845) 154(40.005,-3.745) 155(41.275,-1.845) 156(42.545,-3.745) 157(43.815,-1.845) 158(45.085,-3.745) 159(46.355,-1.845) 160(47.625,-3.745) 161(48.895,-1.845) 162(50.165,-3.745) 163(51.435,-1.845) 164(52.705,-3.745) 165(53.975,-1.845) 166(55.245,-3.745) 167(56.515,-1.845) 168(57.785,-3.745)
  round 2.778 hole 1.778: 169(60.96,-0.455) 171(-60.96,-0.455)
  round 3.94 hole 2.44: 170(0,7.545)
Top Overlay:
  lines w0.25: -84.364,17.373 -83.299,17.988 -83.129,17.693 -82.072,18.303 -81.991,18.281 -81.871,18.074 -80.918,18.624 -80.803,18.424 -79.85,18.974 -79.705,18.723 -75.652,21.063 -66.372,4.99 -68.472,9.765 -69.13,9.765 ; -83.575,14.226 ccw(c-82.222,15.007) -81.441,13.654 ; -83.54,14.165 -85.22,17.075 -84.467,17.51 -84.372,17.345 -82.138,13.497 ; -81.44,13.657 -80.959,13.935 cw(c-80.125,12.49) -78.679,13.324 ; -78.664,13.32 -72.924,3.378 -71.52,2.865 ; -75.999,20.863 -73.049,15.754 -70.225,8.343 cw(c-70.844,8.128) -70.588,7.525 ; -75.622,21.011 -74.612,20.982 -73.507,19.068 -73.92,18.183 ; -74.124,5.456 -70.469,7.566 ; -71.52,3.669 -72.028,4.177 -71.52,4.685 ; -70.32,-2.935 -70.32,0.095 -69.07,0.095 -69.07,-2.935 ; -66.4,4.935 -65.76,8.785 -64,8.785 ; -65.04,8.815 -65.04,11.535 -64,11.535 -64,8.785 ; -64,3.565 -8.115,3.565 -8.115,9.565 -2.5,9.565 ; -64,4.865 -71.52,4.865 -71.52,-2.935 -64,-2.935 ; 2.5,9.565 8.115,9.565 8.115,3.565 64,3.565 ; 64,4.865 71.52,4.865 71.52,-2.935 64,-2.935 ; 65.04,8.815 65.04,11.535 64,11.535 64,8.785 ; 66.4,4.935 65.76,8.785 64,8.785 ; 69.07,-2.935 69.07,0.095 70.32,0.095 70.32,-2.935 ; 69.13,9.765 68.472,9.765 66.372,4.99 75.652,21.063 79.705,18.723 79.85,18.974 80.803,18.424 80.918,18.624 81.871,18.074 81.991,18.281 82.072,18.303 83.129,17.693 83.299,17.988 84.364,17.373 ; 70.469,7.566 74.124,5.456 ; 70.588,7.525 cw(c70.844,8.128) 70.225,8.343 73.049,15.754 75.999,20.863 ; 71.52,2.865 72.924,3.378 78.664,13.32 ; 71.52,3.669 72.028,4.177 71.52,4.685 ; 73.92,18.183 73.507,19.068 74.612,20.982 75.622,21.011 ; 78.679,13.324 cw(c80.125,12.49) 80.959,13.935 81.44,13.657 ; 81.441,13.654 ccw(c82.222,15.007) 83.575,14.226 ; 82.138,13.497 84.372,17.345 84.467,17.51 85.22,17.075 83.54,14.165 ; -64,-2.935 -64,8.785 ; -64,-2.935 -64,-9.435 64,-9.435 64,-2.935 ; 64,-2.935 64,8.785
  text "40" at -4.425,-11.515 h1.5
  text "1" at -58.035,-11.515 h1.5
  text "85" at -59.035,0.655 h1.5
  text "10" at -47.605,-11.515 h1.5
  text "93" at -48.875,0.655 h1.5
  text "95" at -41.255,0.655 h1.5
  text "123" at -6.445,0.655 h1.5
  text "125" at 1.175,0.655 h1.5
  text "42" at 3.195,-11.515 h1.5
  text "84" at 56.535,-11.515 h1.5
  text "168" at 55.785,0.655 h1.5
  text "12" at -39.985,-11.515 h1.5

## 3-390175-6 [mm] "Connector; DIMM II; 168 Position; Right Angle"
height 12.7
pads (171):
  rect 1.4x1.4 hole 0.81: 1(-57.785,-5.645)
  round 1.4 hole 0.81: 2(-56.515,-7.545) 3(-55.245,-5.645) 4(-53.975,-7.545) 5(-52.705,-5.645) 6(-51.435,-7.545) 7(-50.165,-5.645) 8(-48.895,-7.545) 9(-47.625,-5.645) 10(-46.355,-7.545) 11(-40.005,-5.645) 12(-38.735,-7.545) 13(-37.465,-5.645) 14(-36.195,-7.545) 15(-34.925,-5.645) 16(-33.655,-7.545) 17(-32.385,-5.645) 18(-31.115,-7.545) 19(-29.845,-5.645) 20(-28.575,-7.545) 21(-27.305,-5.645) 22(-26.035,-7.545) 23(-24.765,-5.645) 24(-23.495,-7.545) 25(-22.225,-5.645) 26(-20.955,-7.545) 27(-19.685,-5.645) 28(-18.415,-7.545) 29(-17.145,-5.645) 30(-15.875,-7.545) 31(-14.605,-5.645) 32(-13.335,-7.545) 33(-12.065,-5.645) 34(-10.795,-7.545) 35(-9.525,-5.645) 36(-8.255,-7.545) 37(-6.985,-5.645) 38(-5.715,-7.545) 39(-4.445,-5.645) 40(-3.175,-7.545) 41(3.175,-5.645) 42(4.445,-7.545) 43(5.715,-5.645) 44(6.985,-7.545) 45(8.255,-5.645) 46(9.525,-7.545) 47(10.795,-5.645) 48(12.065,-7.545) 49(13.335,-5.645) 50(14.605,-7.545) 51(15.875,-5.645) 52(17.145,-7.545) 53(18.415,-5.645) 54(19.685,-7.545) 55(20.955,-5.645) 56(22.225,-7.545) 57(23.495,-5.645) 58(24.765,-7.545) 59(26.035,-5.645) 60(27.305,-7.545) 61(28.575,-5.645) 62(29.845,-7.545) 63(31.115,-5.645) 64(32.385,-7.545) 65(33.655,-5.645) 66(34.925,-7.545) 67(36.195,-5.645) 68(37.465,-7.545) 69(38.735,-5.645) 70(40.005,-7.545) 71(41.275,-5.645) 72(42.545,-7.545) 73(43.815,-5.645) 74(45.085,-7.545) 75(46.355,-5.645) 76(47.625,-7.545) 77(48.895,-5.645) 78(50.165,-7.545) 79(51.435,-5.645) 80(52.705,-7.545) 81(53.975,-5.645) 82(55.245,-7.545) 83(56.515,-5.645) 84(57.785,-7.545) 85(-57.785,-1.845) 86(-56.515,-3.745) 87(-55.245,-1.845) 88(-53.975,-3.745) 89(-52.705,-1.845) 90(-51.435,-3.745) 91(-50.165,-1.845) 92(-48.895,-3.745) 93(-47.625,-1.845) 94(-46.355,-3.745) 95(-40.005,-1.845) 96(-38.735,-3.745) 97(-37.465,-1.845) 98(-36.195,-3.745) 99(-34.925,-1.845) 100(-33.655,-3.745) 101(-32.385,-1.845) 102(-31.115,-3.745) 103(-29.845,-1.845) 104(-28.575,-3.745) 105(-27.305,-1.845) 106(-26.035,-3.745) 107(-24.765,-1.845) 108(-23.495,-3.745) 109(-22.225,-1.845) 110(-20.955,-3.745) 111(-19.685,-1.845) 112(-18.415,-3.745) 113(-17.145,-1.845) 114(-15.875,-3.745) 115(-14.605,-1.845) 116(-13.335,-3.745) 117(-12.065,-1.845) 118(-10.795,-3.745) 119(-9.525,-1.845) 120(-8.255,-3.745) 121(-6.985,-1.845) 122(-5.715,-3.745) 123(-4.445,-1.845) 124(-3.175,-3.745) 125(3.175,-1.845) 126(4.445,-3.745) 127(5.715,-1.845) 128(6.985,-3.745) 129(8.255,-1.845) 130(9.525,-3.745) 131(10.795,-1.845) 132(12.065,-3.745) 133(13.335,-1.845) 134(14.605,-3.745) 135(15.875,-1.845) 136(17.145,-3.745) 137(18.415,-1.845) 138(19.685,-3.745) 139(20.955,-1.845) 140(22.225,-3.745) 141(23.495,-1.845) 142(24.765,-3.745) 143(26.035,-1.845) 144(27.305,-3.745) 145(28.575,-1.845) 146(29.845,-3.745) 147(31.115,-1.845) 148(32.385,-3.745) 149(33.655,-1.845) 150(34.925,-3.745) 151(36.195,-1.845) 152(37.465,-3.745) 153(38.735,-1.845) 154(40.005,-3.745) 155(41.275,-1.845) 156(42.545,-3.745) 157(43.815,-1.845) 158(45.085,-3.745) 159(46.355,-1.845) 160(47.625,-3.745) 161(48.895,-1.845) 162(50.165,-3.745) 163(51.435,-1.845) 164(52.705,-3.745) 165(53.975,-1.845) 166(55.245,-3.745) 167(56.515,-1.845) 168(57.785,-3.745)
  round 2.778 hole 1.778: 169(60.96,-0.455) 171(-60.96,-0.455)
  round 3.94 hole 2.44: 170(0,7.545)
Top Overlay:
  lines w0.25: -84.364,17.373 -83.299,17.988 -83.129,17.693 -82.072,18.303 -81.991,18.281 -81.871,18.074 -80.918,18.624 -80.803,18.424 -79.85,18.974 -79.705,18.723 -75.652,21.063 -66.372,4.99 -68.472,9.765 -69.13,9.765 ; -83.575,14.226 ccw(c-82.222,15.007) -81.441,13.654 ; -83.54,14.165 -85.22,17.075 -84.467,17.51 -84.372,17.345 -82.138,13.497 ; -81.44,13.657 -80.959,13.935 cw(c-80.125,12.49) -78.679,13.324 ; -78.664,13.32 -72.924,3.378 -71.52,2.865 ; -75.999,20.863 -73.049,15.754 -70.225,8.343 cw(c-70.844,8.128) -70.588,7.525 ; -75.622,21.011 -74.612,20.982 -73.507,19.068 -73.92,18.183 ; -74.124,5.456 -70.469,7.566 ; -71.52,3.669 -72.028,4.177 -71.52,4.685 ; -70.32,-2.935 -70.32,0.095 -69.07,0.095 -69.07,-2.935 ; -66.4,4.935 -65.76,8.785 -64,8.785 ; -65.04,8.815 -65.04,11.535 -64,11.535 -64,8.785 ; -64,3.565 -8.115,3.565 -8.115,9.565 -2.5,9.565 ; -64,4.865 -71.52,4.865 -71.52,-2.935 -64,-2.935 ; 2.5,9.565 8.115,9.565 8.115,3.565 64,3.565 ; 64,4.865 71.52,4.865 71.52,-2.935 64,-2.935 ; 65.04,8.815 65.04,11.535 64,11.535 64,8.785 ; 66.4,4.935 65.76,8.785 64,8.785 ; 69.07,-2.935 69.07,0.095 70.32,0.095 70.32,-2.935 ; 69.13,9.765 68.472,9.765 66.372,4.99 75.652,21.063 79.705,18.723 79.85,18.974 80.803,18.424 80.918,18.624 81.871,18.074 81.991,18.281 82.072,18.303 83.129,17.693 83.299,17.988 84.364,17.373 ; 70.469,7.566 74.124,5.456 ; 70.588,7.525 cw(c70.844,8.128) 70.225,8.343 73.049,15.754 75.999,20.863 ; 71.52,2.865 72.924,3.378 78.664,13.32 ; 71.52,3.669 72.028,4.177 71.52,4.685 ; 73.92,18.183 73.507,19.068 74.612,20.982 75.622,21.011 ; 78.679,13.324 cw(c80.125,12.49) 80.959,13.935 81.44,13.657 ; 81.441,13.654 ccw(c82.222,15.007) 83.575,14.226 ; 82.138,13.497 84.372,17.345 84.467,17.51 85.22,17.075 83.54,14.165 ; -64,-2.935 -64,8.785 ; -64,-2.935 -64,-9.435 64,-9.435 64,-2.935 ; 64,-2.935 64,8.785
  text "40" at -4.425,-11.515 h1.5
  text "1" at -58.035,-11.515 h1.5
  text "85" at -59.035,0.655 h1.5
  text "10" at -47.605,-11.515 h1.5
  text "93" at -48.875,0.655 h1.5
  text "95" at -41.255,0.655 h1.5
  text "123" at -6.445,0.655 h1.5
  text "125" at 1.175,0.655 h1.5
  text "42" at 3.195,-11.515 h1.5
  text "84" at 56.535,-11.515 h1.5
  text "168" at 55.785,0.655 h1.5
  text "12" at -39.985,-11.515 h1.5

## 3-917334-0 [mm] "Connector; CHAMP Miniature Ribbon 050 Series II; 80 Position; Vertical"
height 11.1
pads (82):
  rect 1.4x1.4 hole 0.8: 1(-24.765,-2.857)
  round 1.4 hole 0.8: 2(-23.495,-0.953) 3(-22.225,-2.857) 4(-20.955,-0.953) 5(-19.685,-2.857) 6(-18.415,-0.953) 7(-17.145,-2.857) 8(-15.875,-0.953) 9(-14.605,-2.857) 10(-13.335,-0.953) 11(-12.065,-2.857) 12(-10.795,-0.953) 13(-9.525,-2.857) 14(-8.255,-0.953) 15(-6.985,-2.857) 16(-5.715,-0.953) 17(-4.445,-2.857) 18(-3.175,-0.953) 19(-1.905,-2.857) 20(-0.635,-0.953) 21(0.635,-2.857) 22(1.905,-0.953) 23(3.175,-2.857) 24(4.445,-0.953) 25(5.715,-2.857) 26(6.985,-0.953) 27(8.255,-2.857) 28(9.525,-0.953) 29(10.795,-2.857) 30(12.065,-0.953) 31(13.335,-2.857) 32(14.605,-0.953) 33(15.875,-2.857) 34(17.145,-0.953) 35(18.415,-2.857) 36(19.685,-0.953) 37(20.955,-2.857) 38(22.225,-0.953) 39(23.495,-2.857) 40(24.765,-0.953) 41(24.765,2.857) 42(23.495,0.953) 43(22.225,2.857) 44(20.955,0.953) 45(19.685,2.857) 46(18.415,0.953) 47(17.145,2.857) 48(15.875,0.953) 49(14.605,2.857) 50(13.335,0.953) 51(12.065,2.857) 52(10.795,0.953) 53(9.525,2.857) 54(8.255,0.953) 55(6.985,2.857) 56(5.715,0.953) 57(4.445,2.857) 58(3.175,0.953) 59(1.905,2.857) 60(0.635,0.953) 61(-0.635,2.857) 62(-1.905,0.953) 63(-3.175,2.857) 64(-4.445,0.953) 65(-5.715,2.857) 66(-6.985,0.953) 67(-8.255,2.857) 68(-9.525,0.953) 69(-10.795,2.857) 70(-12.065,0.953) 71(-13.335,2.857) 72(-14.605,0.953) 73(-15.875,2.857) 74(-17.145,0.953) 75(-18.415,2.857) 76(-19.685,0.953) 77(-20.955,2.857) 78(-22.225,0.953) 79(-23.495,2.857) 80(-24.765,0.953)
  round 4.3 hole 2.8: 81(-32.775,0) 82(32.775,0)
Top Overlay:
  circle w0.25: c-24.765,-5.25 r0.125
  lines w0.2: -35.725,-4.6 35.725,-4.6 35.725,4.6 -35.725,4.6 -35.725,-4.6
  text "41" at 25.84,2.107 h1.5
  text "80" at -28.34,0.202 h1.5
  text "39" at 24.57,-3.608 h1.5
  text "1" at -26.34,-3.608 h1.5

## 4-390175-6 [mm] "Connector; DIMM II; 168 Position; Right Angle"
height 12.7
pads (171):
  rect 1.4x1.4 hole 0.81: 1(-57.785,-5.645)
  round 1.4 hole 0.81: 2(-56.515,-7.545) 3(-55.245,-5.645) 4(-53.975,-7.545) 5(-52.705,-5.645) 6(-51.435,-7.545) 7(-50.165,-5.645) 8(-48.895,-7.545) 9(-47.625,-5.645) 10(-46.355,-7.545) 11(-40.005,-5.645) 12(-38.735,-7.545) 13(-37.465,-5.645) 14(-36.195,-7.545) 15(-34.925,-5.645) 16(-33.655,-7.545) 17(-32.385,-5.645) 18(-31.115,-7.545) 19(-29.845,-5.645) 20(-28.575,-7.545) 21(-27.305,-5.645) 22(-26.035,-7.545) 23(-24.765,-5.645) 24(-23.495,-7.545) 25(-22.225,-5.645) 26(-20.955,-7.545) 27(-19.685,-5.645) 28(-18.415,-7.545) 29(-17.145,-5.645) 30(-15.875,-7.545) 31(-14.605,-5.645) 32(-13.335,-7.545) 33(-12.065,-5.645) 34(-10.795,-7.545) 35(-9.525,-5.645) 36(-8.255,-7.545) 37(-6.985,-5.645) 38(-5.715,-7.545) 39(-4.445,-5.645) 40(-3.175,-7.545) 41(3.175,-5.645) 42(4.445,-7.545) 43(5.715,-5.645) 44(6.985,-7.545) 45(8.255,-5.645) 46(9.525,-7.545) 47(10.795,-5.645) 48(12.065,-7.545) 49(13.335,-5.645) 50(14.605,-7.545) 51(15.875,-5.645) 52(17.145,-7.545) 53(18.415,-5.645) 54(19.685,-7.545) 55(20.955,-5.645) 56(22.225,-7.545) 57(23.495,-5.645) 58(24.765,-7.545) 59(26.035,-5.645) 60(27.305,-7.545) 61(28.575,-5.645) 62(29.845,-7.545) 63(31.115,-5.645) 64(32.385,-7.545) 65(33.655,-5.645) 66(34.925,-7.545) 67(36.195,-5.645) 68(37.465,-7.545) 69(38.735,-5.645) 70(40.005,-7.545) 71(41.275,-5.645) 72(42.545,-7.545) 73(43.815,-5.645) 74(45.085,-7.545) 75(46.355,-5.645) 76(47.625,-7.545) 77(48.895,-5.645) 78(50.165,-7.545) 79(51.435,-5.645) 80(52.705,-7.545) 81(53.975,-5.645) 82(55.245,-7.545) 83(56.515,-5.645) 84(57.785,-7.545) 85(-57.785,-1.845) 86(-56.515,-3.745) 87(-55.245,-1.845) 88(-53.975,-3.745) 89(-52.705,-1.845) 90(-51.435,-3.745) 91(-50.165,-1.845) 92(-48.895,-3.745) 93(-47.625,-1.845) 94(-46.355,-3.745) 95(-40.005,-1.845) 96(-38.735,-3.745) 97(-37.465,-1.845) 98(-36.195,-3.745) 99(-34.925,-1.845) 100(-33.655,-3.745) 101(-32.385,-1.845) 102(-31.115,-3.745) 103(-29.845,-1.845) 104(-28.575,-3.745) 105(-27.305,-1.845) 106(-26.035,-3.745) 107(-24.765,-1.845) 108(-23.495,-3.745) 109(-22.225,-1.845) 110(-20.955,-3.745) 111(-19.685,-1.845) 112(-18.415,-3.745) 113(-17.145,-1.845) 114(-15.875,-3.745) 115(-14.605,-1.845) 116(-13.335,-3.745) 117(-12.065,-1.845) 118(-10.795,-3.745) 119(-9.525,-1.845) 120(-8.255,-3.745) 121(-6.985,-1.845) 122(-5.715,-3.745) 123(-4.445,-1.845) 124(-3.175,-3.745) 125(3.175,-1.845) 126(4.445,-3.745) 127(5.715,-1.845) 128(6.985,-3.745) 129(8.255,-1.845) 130(9.525,-3.745) 131(10.795,-1.845) 132(12.065,-3.745) 133(13.335,-1.845) 134(14.605,-3.745) 135(15.875,-1.845) 136(17.145,-3.745) 137(18.415,-1.845) 138(19.685,-3.745) 139(20.955,-1.845) 140(22.225,-3.745) 141(23.495,-1.845) 142(24.765,-3.745) 143(26.035,-1.845) 144(27.305,-3.745) 145(28.575,-1.845) 146(29.845,-3.745) 147(31.115,-1.845) 148(32.385,-3.745) 149(33.655,-1.845) 150(34.925,-3.745) 151(36.195,-1.845) 152(37.465,-3.745) 153(38.735,-1.845) 154(40.005,-3.745) 155(41.275,-1.845) 156(42.545,-3.745) 157(43.815,-1.845) 158(45.085,-3.745) 159(46.355,-1.845) 160(47.625,-3.745) 161(48.895,-1.845) 162(50.165,-3.745) 163(51.435,-1.845) 164(52.705,-3.745) 165(53.975,-1.845) 166(55.245,-3.745) 167(56.515,-1.845) 168(57.785,-3.745)
  round 2.778 hole 1.778: 169(60.96,-0.455) 171(-60.96,-0.455)
  round 3.94 hole 2.44: 170(0,7.545)
Top Overlay:
  lines w0.25: -84.364,17.373 -83.299,17.988 -83.129,17.693 -82.072,18.303 -81.991,18.281 -81.871,18.074 -80.918,18.624 -80.803,18.424 -79.85,18.974 -79.705,18.723 -75.652,21.063 -66.372,4.99 -68.472,9.765 -69.13,9.765 ; -83.575,14.226 ccw(c-82.222,15.007) -81.441,13.654 ; -83.54,14.165 -85.22,17.075 -84.467,17.51 -84.372,17.345 -82.138,13.497 ; -81.44,13.657 -80.959,13.935 cw(c-80.125,12.49) -78.679,13.324 ; -78.664,13.32 -72.924,3.378 -71.52,2.865 ; -75.999,20.863 -73.049,15.754 -70.225,8.343 cw(c-70.844,8.128) -70.588,7.525 ; -75.622,21.011 -74.612,20.982 -73.507,19.068 -73.92,18.183 ; -74.124,5.456 -70.469,7.566 ; -71.52,3.669 -72.028,4.177 -71.52,4.685 ; -70.32,-2.935 -70.32,0.095 -69.07,0.095 -69.07,-2.935 ; -66.4,4.935 -65.76,8.785 -64,8.785 ; -65.04,8.815 -65.04,11.535 -64,11.535 -64,8.785 ; -64,3.565 -8.115,3.565 -8.115,9.565 -2.5,9.565 ; -64,4.865 -71.52,4.865 -71.52,-2.935 -64,-2.935 ; 2.5,9.565 8.115,9.565 8.115,3.565 64,3.565 ; 64,4.865 71.52,4.865 71.52,-2.935 64,-2.935 ; 65.04,8.815 65.04,11.535 64,11.535 64,8.785 ; 66.4,4.935 65.76,8.785 64,8.785 ; 69.07,-2.935 69.07,0.095 70.32,0.095 70.32,-2.935 ; 69.13,9.765 68.472,9.765 66.372,4.99 75.652,21.063 79.705,18.723 79.85,18.974 80.803,18.424 80.918,18.624 81.871,18.074 81.991,18.281 82.072,18.303 83.129,17.693 83.299,17.988 84.364,17.373 ; 70.469,7.566 74.124,5.456 ; 70.588,7.525 cw(c70.844,8.128) 70.225,8.343 73.049,15.754 75.999,20.863 ; 71.52,2.865 72.924,3.378 78.664,13.32 ; 71.52,3.669 72.028,4.177 71.52,4.685 ; 73.92,18.183 73.507,19.068 74.612,20.982 75.622,21.011 ; 78.679,13.324 cw(c80.125,12.49) 80.959,13.935 81.44,13.657 ; 81.441,13.654 ccw(c82.222,15.007) 83.575,14.226 ; 82.138,13.497 84.372,17.345 84.467,17.51 85.22,17.075 83.54,14.165 ; -64,-2.935 -64,8.785 ; -64,-2.935 -64,-9.435 64,-9.435 64,-2.935 ; 64,-2.935 64,8.785
  text "40" at -4.425,-11.515 h1.5
  text "1" at -58.035,-11.515 h1.5
  text "85" at -59.035,0.655 h1.5
  text "10" at -47.605,-11.515 h1.5
  text "93" at -48.875,0.655 h1.5
  text "95" at -41.255,0.655 h1.5
  text "123" at -6.445,0.655 h1.5
  text "125" at 1.175,0.655 h1.5
  text "42" at 3.195,-11.515 h1.5
  text "84" at 56.535,-11.515 h1.5
  text "168" at 55.785,0.655 h1.5
  text "12" at -39.985,-11.515 h1.5

## 5-179583-4 [mm] "Connector; D Subminiature 050 Series; 50 Position; Right Angle"
height 8.9
pads (52):
  rect 1.4x1.4 hole 0.8: 1(-15.24,-10.71)
  round 1.4 hole 0.8: 2(-13.97,-8.805) 3(-12.7,-10.71) 4(-11.43,-8.805) 5(-10.16,-10.71) 6(-8.89,-8.805) 7(-7.62,-10.71) 8(-6.35,-8.805) 9(-5.08,-10.71) 10(-3.81,-8.805) 11(-2.54,-10.71) 12(-1.27,-8.805) 13(0,-10.71) 14(1.27,-8.805) 15(2.54,-10.71) 16(3.81,-8.805) 17(5.08,-10.71) 18(6.35,-8.805) 19(7.62,-10.71) 20(8.89,-8.805) 21(10.16,-10.71) 22(11.43,-8.805) 23(12.7,-10.71) 24(13.97,-8.805) 25(15.24,-10.71) 26(-15.24,-6.9) 27(-13.97,-4.995) 28(-12.7,-6.9) 29(-11.43,-4.995) 30(-10.16,-6.9) 31(-8.89,-4.995) 32(-7.62,-6.9) 33(-6.35,-4.995) 34(-5.08,-6.9) 35(-3.81,-4.995) 36(-2.54,-6.9) 37(-1.27,-4.995) 38(0,-6.9) 39(1.27,-4.995) 40(2.54,-6.9) 41(3.81,-4.995) 42(5.08,-6.9) 43(6.35,-4.995) 44(7.62,-6.9) 45(8.89,-4.995) 46(10.16,-6.9) 47(11.43,-4.995) 48(12.7,-6.9) 49(13.97,-4.995) 50(15.24,-6.9)
  round 4.45 hole 2.7: 51(-23.24,-6.9) 52(23.24,-6.9)
Top Overlay:
  lines w0.2: -21.1,4.27 -20.16,4.898 -19.438,4.898 cw(c-19.54,4.5) -19.13,4.5 ; -21.086,4.255 ccw(c-20.86,4.01) -21.11,3.79 -20.23,3.79 -20.23,0 ; -19.13,4.52 -18.76,0 ; -18.02,0.005 ccw(c-18.02,0.7) -17.325,0.7 -17.325,4.5 ; -17.32,4.505 cw(c-16.625,4.505) -16.625,5.2 16.625,5.2 cw(c16.625,4.505) 17.32,4.505 ; 17.325,4.5 17.325,0.7 ccw(c18.02,0.7) 18.02,0.005 ; 18.76,0 19.13,4.52 ; 19.13,4.5 cw(c19.54,4.5) 19.438,4.898 20.16,4.898 21.1,4.27 ; 20.23,0 20.23,3.79 21.11,3.79 ccw(c20.86,4.01) 21.086,4.255 ; -26.24,-12.01 -26.24,0 26.24,0 26.24,-12.01 -26.24,-12.01
  text "1" at -15.49,-13.985 h1.5
  text "25" at 13.99,-13.985 h1.5
  text "27" at -15.22,-3.92 h1.5
  text "49" at 12.72,-3.92 h1.5

## 6-173277-1 [mm] "Connector; D Subminiature 050 Series; 30 Position; Right Angle"
height 8.1
pads (32):
  rect 1.4x1.4 hole 0.8: 1(-8.89,-10.87)
  round 1.4 hole 0.8: 2(-7.62,-8.965) 3(-6.35,-10.87) 4(-5.08,-8.965) 5(-3.81,-10.87) 6(-2.54,-8.965) 7(-1.27,-10.87) 8(0,-8.965) 9(1.27,-10.87) 10(2.54,-8.965) 11(3.81,-10.87) 12(5.08,-8.965) 13(6.35,-10.87) 14(7.62,-8.965) 15(8.89,-10.87) 16(-8.89,-7.06) 17(-7.62,-5.155) 18(-6.35,-7.06) 19(-5.08,-5.155) 20(-3.81,-7.06) 21(-2.54,-5.155) 22(-1.27,-7.06) 23(0,-5.155) 24(1.27,-7.06) 25(2.54,-5.155) 26(3.81,-7.06) 27(5.08,-5.155) 28(6.35,-7.06) 29(7.62,-5.155) 30(8.89,-7.06)
  round 4.3 hole 2.6: 31(-12.59,-5.155) 32(12.59,-5.155)
Top Overlay:
  lines w0.2: -11.67,0 ccw(c-11.67,0.695) -10.975,0.695 ; -10.975,0.715 -10.975,4.305 cw(c-10.28,4.305) -10.28,5 10.28,5 cw(c10.28,4.305) 10.975,4.305 ; 10.975,4.495 10.975,0.695 ccw(c11.67,0.695) 11.67,0 ; -15.59,-12.17 -15.59,0 15.59,0 15.59,-12.17 -15.59,-12.17
  text "17" at -8.745,-4.08 h1.5
  text "29" at 6.37,-4.08 h1.5
  text "1" at -9.14,-14.145 h1.5
  text "15" at 7.765,-14.145 h1.5